# Altium footprint library 1825159-1.PcbLib: 2 footprints
Each footprint in its own frame and in the unit in brackets; x right, y up, seen from the top. Pads: shape width x height; smd on the part's side, far side on the other; paste and mask are expansions set on the pad; w line width, h text height; cw(c..) or ccw(c..) is an arc to the next point about the centre after c.
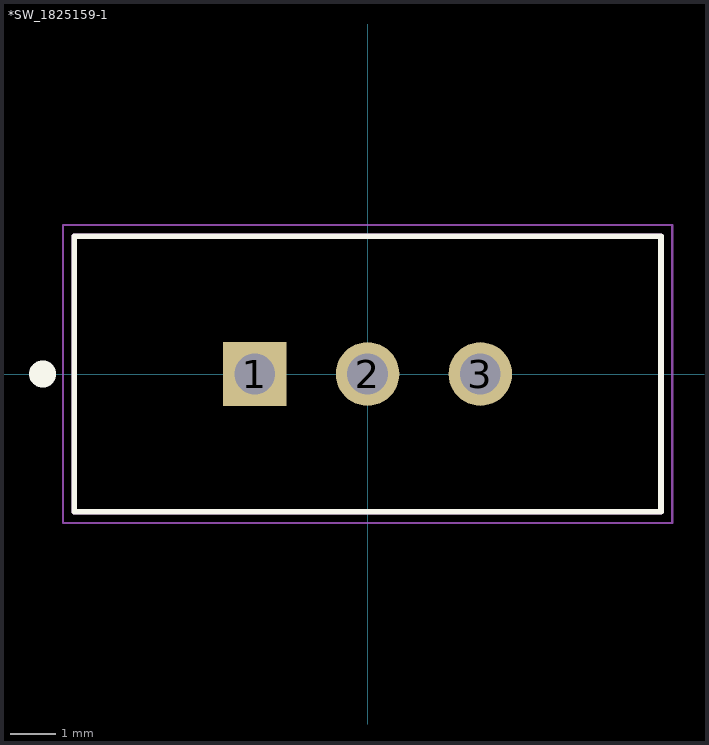
[diagram p0: the footprints below, top view; thin cyan lines are the x and y axes]

## *SW_1825159-1 [mm]
pads (3):
  rect 1.408x1.408 hole 0.9: 1(-2.5,0)
  round 1.408 hole 0.9: 2(0,0) 3(2.5,0)
Top Overlay:
  circle w0.3: c-7.2,0 r0.15
  lines w0.127: -6.5,-3.05 -6.5,3.05 6.5,3.05 6.5,-3.05 -6.5,-3.05
Mechanical 4:
  lines w0.127: -6.5,-3.05 -6.5,3.05 ; -6.5,-3.05 6.5,-3.05 ; -6.5,-3.05 -6.5,3.05 ; -6.5,-3.05 6.5,-3.05 ; -6.5,3.05 6.5,3.05 ; -6.5,3.05 6.5,3.05 ; 6.5,-3.05 6.5,3.05 ; 6.5,-3.05 6.5,3.05
Mechanical 16:
  lines w0.05: -6.75,-3.3 6.75,-3.3 6.75,3.3 -6.75,3.3 -6.75,-3.3
3D body "70274592.stp": height 6.41, standoff -4.99, extent -5.001,-1.22 5,1.22

## PCBComponent_1 [mm]